# Altium integrated library TI Data Converters Analog to Digital Converter.IntLib: 2197 symbols (part 40 of 168)
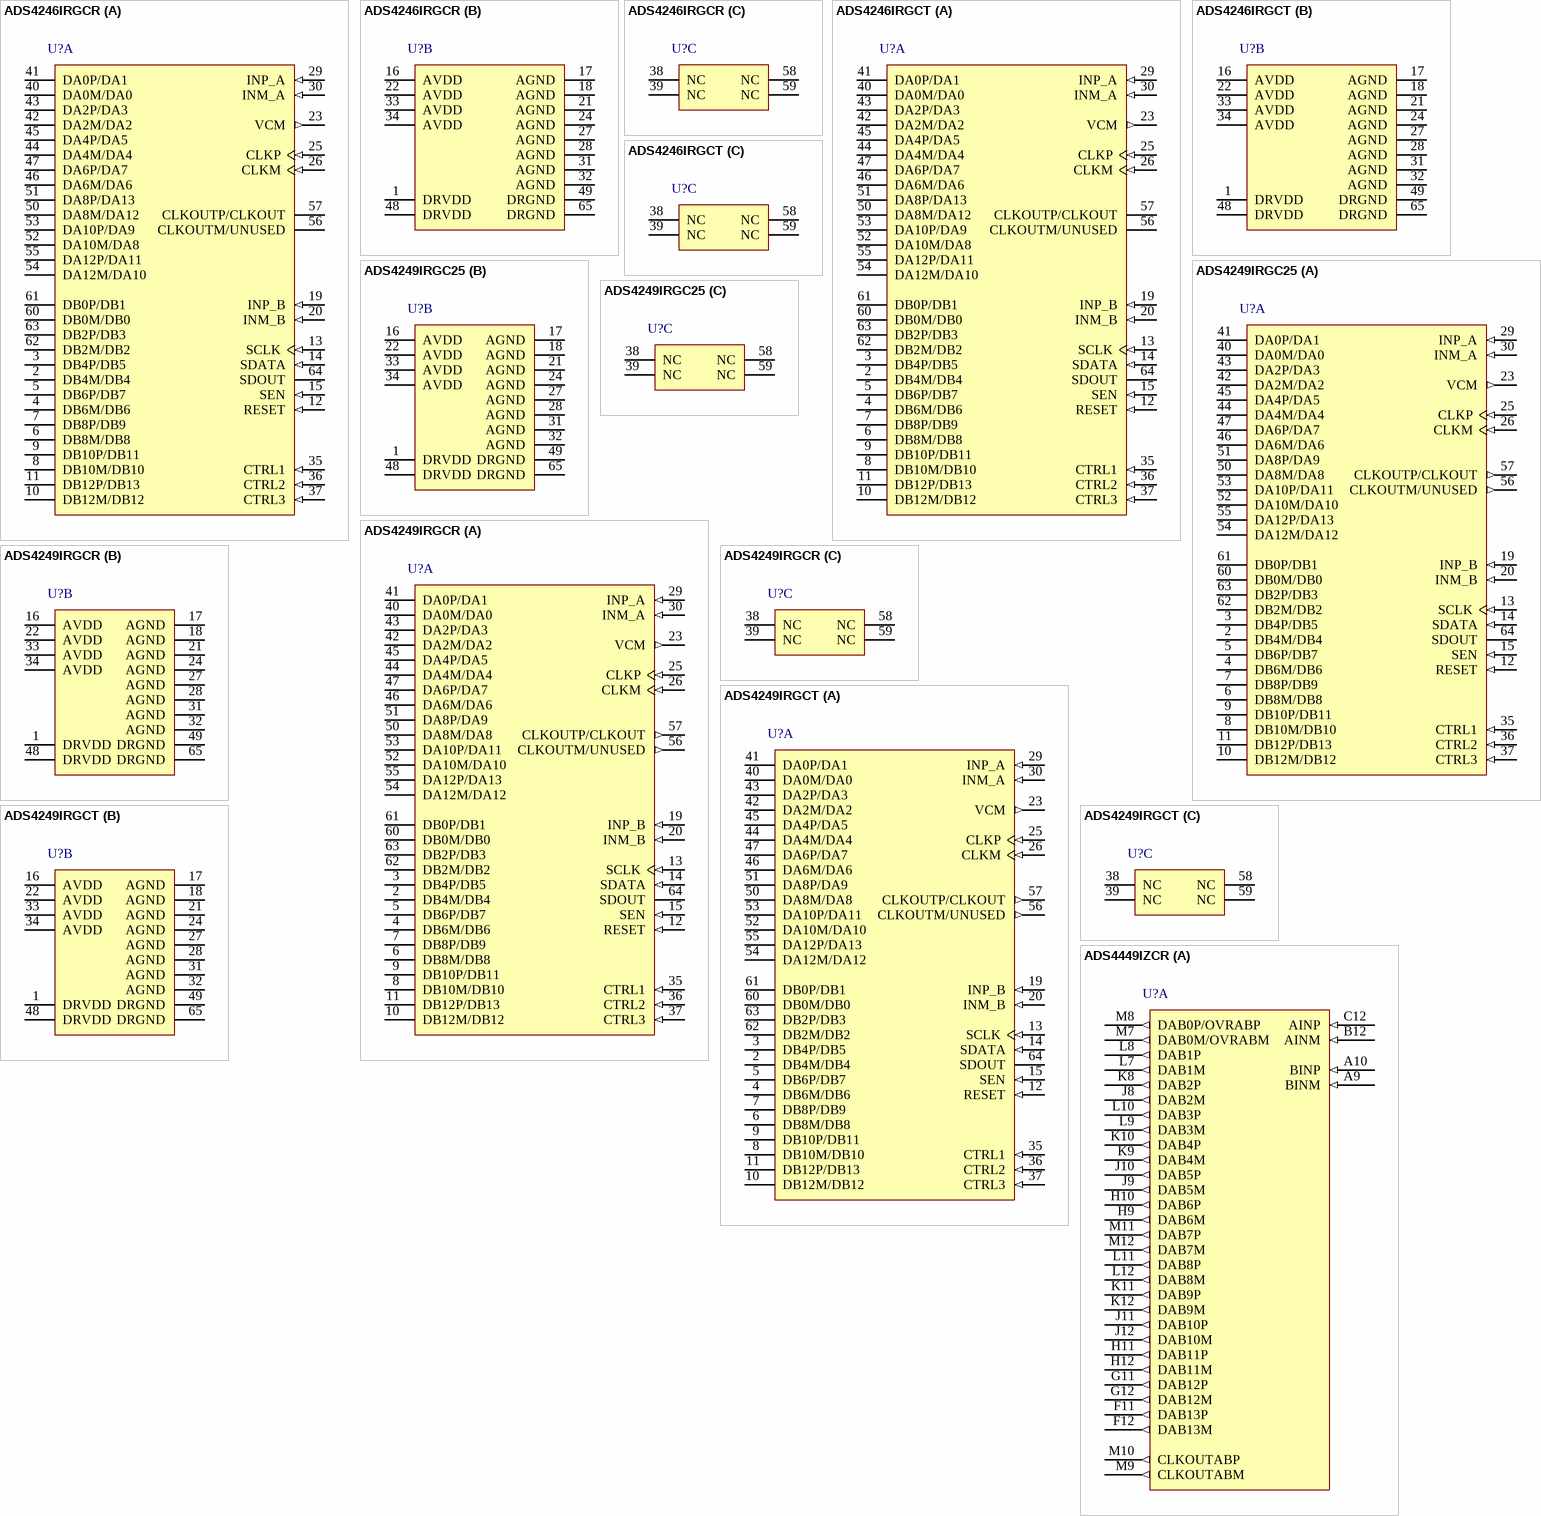
[diagram p165: symbols ADS4246IRGCR to ADS4449IZCR]

## ADS4249IRGCT
designator U?
14-Bit 250 MSPS Dual Low Power ADC, -40 to 85 degC, 64-pin QFN (RGC64), Green (RoHS & no Sb/Br); Manufacturer: Texas Instruments; PartNumber: ADS4249IRGCT; # Input Channels: 2; Analog Voltage AV/DD(Max)(V): 1.9; Analog Voltage AV/DD(Min)(V): 1.7; Architecture: Pipeline; ENOB(Bits): 11.45; INL(Max)(+/-LSB): 4.5; Interface: Parallel CMOS,Parallel LVDS; Resolution(Bits): 14; Sample Rate (max)(SPS): 250M; SFDR(dB): 80; SINAD(dB): 72; SNR(dB): 72.8; SubFamily: High Speed ADC (>10MSPS); DatasheetVersion: SBAS534C; PackageVersion: 4204106/F, 11/2011; PackageReference: RGC64-7400X7400TP; PackageDescription: 64-Pin Plastic Quad Flatpack No-Lead, Body 9 x 9 mm, Pitch 0.5 mm; Supplier 1: Digi-Key; Supplier Part Number 1: ADS8380IBRHPTG4-ND; Supplier 2: Mouser; Supplier Part Number 2: 595-ADS8380IBRHPTG4; Digital Supply(Max)(V): 1.9; Digital Supply(Min)(V): 1.7; Eco-Plan: Green (RoHS & no Sb/Br); Mounting Technology: Surface Mount; ComponentLink1Description: Manufacturer URL; ComponentLink1URL: http://www.ti.com/; ComponentLink2Description: Datasheet; ComponentLink2URL: http://www.ti.com/general/docs/lit/getliterature.tsp?genericPartNumber=ADS4249&fileType=pdf; ComponentLink3Description: Package Specification; ComponentLink3URL: http://www.ti.com/litv/pdf/mpqf125e
footprint TI-RGC64-7400X7400TP_V (QFN, 64-Leads, Body 9x9mm, Pitch 0.5mm, Thermal Pad 7.4x7.4mm, TI Recommended)
part A pins: 2 DB4M/DB4 (hiz), 3 DB4P/DB5 (hiz), 4 DB6M/DB6 (hiz), 5 DB6P/DB7 (hiz), 6 DB8M/DB8 (hiz), 7 DB8P/DB9 (hiz), 8 DB10M/DB10 (hiz), 9 DB10P/DB11 (hiz), 10 DB12M/DB12 (hiz), 11 DB12P/DB13 (hiz), 12 RESET (in) "Serial interface RESET input. When using the serial interface mode, the internal registers must be initialized through a hardware RESET by applying a high pulse on this pin or by using the software reset option; refer to the (See Datasheet)", 13 SCLK (in) "This pin functions as a serial interface clock input when RESET is low. It controls the low-speed mode selection when RESET is tied high; see Table 6 for detailed information. This pin has an internal 150-kohm pull-down (See Datasheet)", 14 SDATA (in) "Serial interface data input; this pin has an internal 150-kohm pull-down resistor.", 15 SEN (in) "This pin functions as a serial interface enable input when RESET is low. It controls the output interface and data format selection when RESET is tied high; see Table 7 for detailed information. This pin has an internal (See Datasheet)", 19 INP_B (in) "Differential analog positive input, channel B", 20 INM_B (in) "Differential analog negative input, channel B", 23 VCM (out) "This pin outputs the common-mode voltage (0.95 V) that can be used externally to bias the analog input pins", 25 CLKP (in) "Differential clock positive input", 26 CLKM (in) "Differential clock negative input", 29 INP_A (in) "Differential analog positive input, channel A", 30 INM_A (in) "Differential analog negative input, channel A", 35 CTRL1 (in) "Digital control input pins. Together, they control the various power-down modes.", 36 CTRL2 (in) "Digital control input pins. Together, they control the various power-down modes.", 37 CTRL3 (in) "Digital control input pins. Together, they control the various power-down modes.", 40 DA0M/DA0 (hiz), 41 DA0P/DA1 (hiz), 42 DA2M/DA2 (hiz), 43 DA2P/DA3 (hiz), 44 DA4M/DA4 (hiz), 45 DA4P/DA5 (hiz), 46 DA6M/DA6 (hiz), 47 DA6P/DA7 (hiz), 50 DA8M/DA8 (hiz), 51 DA8P/DA9 (hiz), 52 DA10M/DA10 (hiz), 53 DA10P/DA11 (hiz), 54 DA12M/DA12 (hiz), 55 DA12P/DA13 (hiz), 56 CLKOUTM/UNUSED (out) "Differential clock negative output", 57 CLKOUTP/CLKOUT (out) "Differential clock positive output", 60 DB0M/DB0 (hiz), 61 DB0P/DB1 (hiz), 62 DB2M/DB2 (hiz), 63 DB2P/DB3 (hiz), 64 SDOUT (hiz) "This pin functions as a serial interface register readout when the READOUT bit is enabled. When READOUT = 0, this pin is in high-impedance state."
part B pins: 1 DRVDD (power) "Output buffer supply", 16 AVDD (power) "Analog power supply", 17 AGND (power) "Analog ground", 18 AGND (power) "Analog ground", 21 AGND (power) "Analog ground", 22 AVDD (power) "Analog power supply", 24 AGND (power) "Analog ground", 27 AGND (power) "Analog ground", 28 AGND (power) "Analog ground", 31 AGND (power) "Analog ground", 32 AGND (power) "Analog ground", 33 AVDD (power) "Analog power supply", 34 AVDD (power) "Analog power supply", 48 DRVDD (power) "Output buffer supply", 49 DRGND (power) "Output buffer ground", 65 DRGND (power) "Output buffer ground"
part C pins: 38 NC "Do not connect, must be floated", 39 NC "Do not connect, must be floated", 58 NC "Do not connect, must be floated", 59 NC "Do not connect, must be floated"

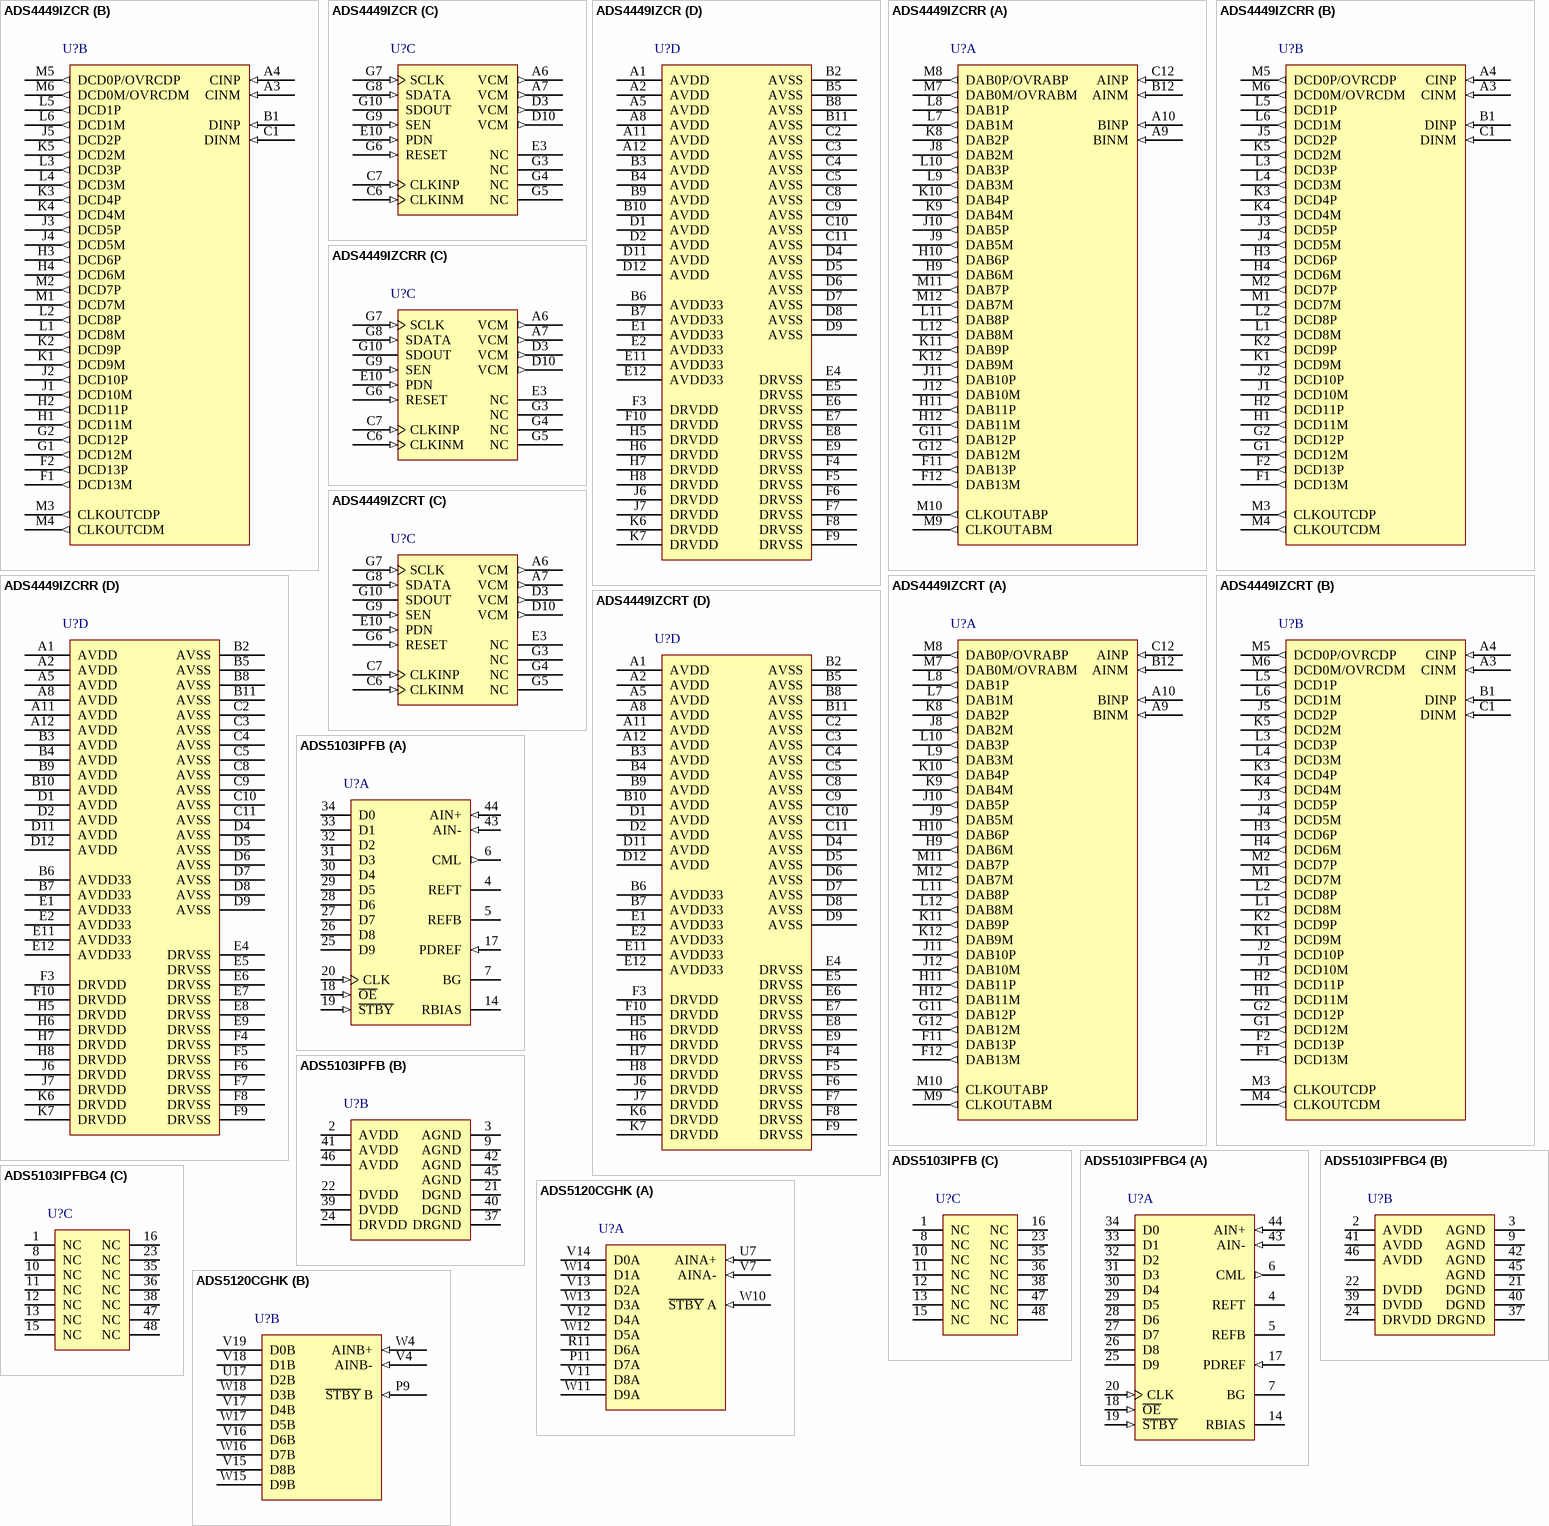
[diagram p35: symbols ADS4449IZCR to ADS5120CGHK]

## ADS4449IZCR
designator U?
Quad-Channel, 14-Bit, 250-MSPS Low-Power ADC, -40 to 85 degC, 144-pin BGA (ZCR), Green (RoHS & no Sb/Br); Manufacturer: Texas Instruments; PartNumber: ADS4449IZCR; # Input Channels: 4; Analog Voltage AV/DD(Max)(V): 3.45; Analog Voltage AV/DD(Min)(V): 3.15; Architecture: Pipeline; Digital Supply(Max)(V): 2; Digital Supply(Min)(V): 1.7; INL(Max)(+/-LSB): 5.25; Interface: DDR LVDS; Resolution(Bits): 14; Sample Rate(max)(SPS): 250M; SFDR(dB): 84; SINAD(dB): 70.9; SNR(dB): 71.1; SubFamily: High Speed ADC (>10MSPS); DatasheetVersion: SBAS603; PackageVersion: 4210272-3/C, 11/2011; PackageReference: ZCR144; PackageDescription: 144-Pin Plastic Ball Grid Array, Body 10 x 10 mm, Pitch 0.8 mm; Supplier 1: Digi-Key; Supplier Part Number 1: 296-17634-2-ND; Supplier 2: Digi-Key; Supplier Part Number 2: 296-17634-1-ND; Supplier 3: Digi-Key; Supplier Part Number 3: 296-17634-6-ND; Supplier 4: Mouser; Supplier Part Number 4: 595-ADS8380IRHPT; Mounting Technology: Surface Mount; Code_JEDEC: MO-219F; ComponentLink1Description: Manufacturer URL; ComponentLink1URL: http://www.ti.com/; ComponentLink2Description: Datasheet; ComponentLink2URL: http://www.ti.com/lit/ds/symlink/ads4449.pdf; ComponentLink3Description: Package Specification; ComponentLink3URL: http://www.ti.com/litv/pdf/mpbga77
footprint TI-ZCR144 (BGA, 144-Balls, Body 10x10mm, Pitch 0.8mm)
part A pins: A9 BINM (in) "Negative differential analog input for channel B", A10 BINP (in) "Positive differential analog input for channel B", B12 AINM (in) "Negative differential analog input for channel A", C12 AINP (in) "Positive differential analog input for channel A", F11 DAB13P (out) "DDR LVDS outputs for channels A and B.", F12 DAB13M (out) "DDR LVDS outputs for channels A and B.", G11 DAB12P (out) "DDR LVDS outputs for channels A and B.", G12 DAB12M (out) "DDR LVDS outputs for channels A and B.", H9 DAB6M (out) "DDR LVDS outputs for channels A and B.", H10 DAB6P (out) "DDR LVDS outputs for channels A and B.", H11 DAB11P (out) "DDR LVDS outputs for channels A and B.", H12 DAB11M (out) "DDR LVDS outputs for channels A and B.", J8 DAB2M (out) "DDR LVDS outputs for channels A and B.", J9 DAB5M (out) "DDR LVDS outputs for channels A and B.", J10 DAB5P (out) "DDR LVDS outputs for channels A and B.", J11 DAB10P (out) "DDR LVDS outputs for channels A and B.", J12 DAB10M (out) "DDR LVDS outputs for channels A and B.", K8 DAB2P (out) "DDR LVDS outputs for channels A and B.", K9 DAB4M (out) "DDR LVDS outputs for channels A and B.", K10 DAB4P (out) "DDR LVDS outputs for channels A and B.", K11 DAB9P (out) "DDR LVDS outputs for channels A and B.", K12 DAB9M (out) "DDR LVDS outputs for channels A and B.", L7 DAB1M (out) "DDR LVDS outputs for channels A and B.", L8 DAB1P (out) "DDR LVDS outputs for channels A and B.", L9 DAB3M (out) "DDR LVDS outputs for channels A and B.", L10 DAB3P (out) "DDR LVDS outputs for channels A and B.", L11 DAB8P (out) "DDR LVDS outputs for channels A and B.", L12 DAB8M (out) "DDR LVDS outputs for channels A and B.", M7 DAB0M/OVRABM (out) "DDR LVDS outputs for channels A and B.", M8 DAB0P/OVRABP (out) "DDR LVDS outputs for channels A and B.", M9 CLKOUTABM (out) "Negative differential LVDS clock output for channel A and B", M10 CLKOUTABP (out) "Positive differential LVDS clock output for channel A and B", M11 DAB7P (out) "DDR LVDS outputs for channels A and B.", M12 DAB7M (out) "DDR LVDS outputs for channels A and B."
part B pins: A3 CINM (in) "Negative differential analog input for channel C", A4 CINP (in) "Positive differential analog input for channel C", B1 DINP (in) "Positive differential analog input for channel D", C1 DINM (in) "Negative differential analog input for channel D", F1 DCD13M (out) "DDR LVDS outputs for channels C and D.", F2 DCD13P (out) "DDR LVDS outputs for channels C and D.", G1 DCD12M (out) "DDR LVDS outputs for channels C and D.", G2 DCD12P (out) "DDR LVDS outputs for channels C and D.", H1 DCD11M (out) "DDR LVDS outputs for channels C and D.", H2 DCD11P (out) "DDR LVDS outputs for channels C and D.", H3 DCD6P (out) "DDR LVDS outputs for channels C and D.", H4 DCD6M (out) "DDR LVDS outputs for channels C and D.", J1 DCD10M (out) "DDR LVDS outputs for channels C and D.", J2 DCD10P (out) "DDR LVDS outputs for channels C and D.", J3 DCD5P (out) "DDR LVDS outputs for channels C and D.", J4 DCD5M (out) "DDR LVDS outputs for channels C and D.", J5 DCD2P (out) "DDR LVDS outputs for channels C and D.", K1 DCD9M (out) "DDR LVDS outputs for channels C and D.", K2 DCD9P (out) "DDR LVDS outputs for channels C and D.", K3 DCD4P (out) "DDR LVDS outputs for channels C and D.", K4 DCD4M (out) "DDR LVDS outputs for channels C and D.", K5 DCD2M (out) "DDR LVDS outputs for channels C and D.", L1 DCD8M (out) "DDR LVDS outputs for channels C and D.", L2 DCD8P (out) "DDR LVDS outputs for channels C and D.", L3 DCD3P (out) "DDR LVDS outputs for channels C and D.", L4 DCD3M (out) "DDR LVDS outputs for channels C and D.", L5 DCD1P (out) "DDR LVDS outputs for channels C and D.", L6 DCD1M (out) "DDR LVDS outputs for channels C and D.", M1 DCD7M (out) "DDR LVDS outputs for channels C and D.", M2 DCD7P (out) "DDR LVDS outputs for channels C and D.", M3 CLKOUTCDP (out) "Positive differential LVDS clock output for channels C and D", M4 CLKOUTCDM (out) "Negative differential LVDS clock output for channels C and D", M5 DCD0P/OVRCDP (out) "DDR LVDS outputs for channels C and D.", M6 DCD0M/OVRCDM (out) "DDR LVDS outputs for channels C and D."
part C pins: A6 VCM (out) "Common-mode voltage for analog inputs. All VCM pins are internally connected together.", A7 VCM (out) "Common-mode voltage for analog inputs. All VCM pins are internally connected together.", C6 CLKINM (in) "Negative differential clock input", C7 CLKINP (in) "Positive differential clock input", D3 VCM (out) "Common-mode voltage for analog inputs. All VCM pins are internally connected together.", D10 VCM (out) "Common-mode voltage for analog inputs. All VCM pins are internally connected together.", E3 NC "Do not connect", E10 PDN (in) "Power-down control; active high. Logic high is power down.", G3 NC "Do not connect", G4 NC "Do not connect", G5 NC "Do not connect", G6 RESET (in) "Hardware reset; active high", G7 SCLK (in) "Serial interface clock input", G8 SDATA (in) "Serial interface data input", G9 SEN (in) "Serial interface enable", G10 SDOUT (hiz) "Serial interface data output"
part D pins: A1 AVDD (power) "Analog 1.9-V power supply", A2 AVDD (power) "Analog 1.9-V power supply", A5 AVDD (power) "Analog 1.9-V power supply", A8 AVDD (power) "Analog 1.9-V power supply", A11 AVDD (power) "Analog 1.9-V power supply", A12 AVDD (power) "Analog 1.9-V power supply", B2 AVSS (power) "Analog ground", B3 AVDD (power) "Analog 1.9-V power supply", B4 AVDD (power) "Analog 1.9-V power supply", B5 AVSS (power) "Analog ground", B6 AVDD33 (power) "Analog 3.3-V power supply", B7 AVDD33 (power) "Analog 3.3-V power supply", B8 AVSS (power) "Analog ground", B9 AVDD (power) "Analog 1.9-V power supply", B10 AVDD (power) "Analog 1.9-V power supply", B11 AVSS (power) "Analog ground", C2 AVSS (power) "Analog ground", C3 AVSS (power) "Analog ground", C4 AVSS (power) "Analog ground", C5 AVSS (power) "Analog ground", C8 AVSS (power) "Analog ground", C9 AVSS (power) "Analog ground", C10 AVSS (power) "Analog ground", C11 AVSS (power) "Analog ground", D1 AVDD (power) "Analog 1.9-V power supply", D2 AVDD (power) "Analog 1.9-V power supply", D4 AVSS (power) "Analog ground", D5 AVSS (power) "Analog ground", D6 AVSS (power) "Analog ground", D7 AVSS (power) "Analog ground", D8 AVSS (power) "Analog ground", D9 AVSS (power) "Analog ground", D11 AVDD (power) "Analog 1.9-V power supply", D12 AVDD (power) "Analog 1.9-V power supply", E1 AVDD33 (power) "Analog 3.3-V power supply", E2 AVDD33 (power) "Analog 3.3-V power supply", E4 DRVSS (power) "Digital ground", E5 DRVSS (power) "Digital ground", E6 DRVSS (power) "Digital ground", E7 DRVSS (power) "Digital ground", E8 DRVSS (power) "Digital ground", E9 DRVSS (power) "Digital ground", E11 AVDD33 (power) "Analog 3.3-V power supply", E12 AVDD33 (power) "Analog 3.3-V power supply", F3 DRVDD (power) "Digital 1.8-V power supply", F4 DRVSS (power) "Digital ground", F5 DRVSS (power) "Digital ground", F6 DRVSS (power) "Digital ground", F7 DRVSS (power) "Digital ground", F8 DRVSS (power) "Digital ground", F9 DRVSS (power) "Digital ground", F10 DRVDD (power) "Digital 1.8-V power supply", H5 DRVDD (power) "Digital 1.8-V power supply", H6 DRVDD (power) "Digital 1.8-V power supply", H7 DRVDD (power) "Digital 1.8-V power supply", H8 DRVDD (power) "Digital 1.8-V power supply", J6 DRVDD (power) "Digital 1.8-V power supply", J7 DRVDD (power) "Digital 1.8-V power supply", K6 DRVDD (power) "Digital 1.8-V power supply", K7 DRVDD (power) "Digital 1.8-V power supply"

## ADS4449IZCRR
designator U?
Quad-Channel, 14-Bit, 250-MSPS Low-Power ADC, -40 to 85 degC, 144-pin BGA (ZCR), Green (RoHS & no Sb/Br); Manufacturer: Texas Instruments; PartNumber: ADS4449IZCRR; # Input Channels: 4; Analog Voltage AV/DD(Max)(V): 3.45; Analog Voltage AV/DD(Min)(V): 3.15; Architecture: Pipeline; Digital Supply(Max)(V): 2; Digital Supply(Min)(V): 1.7; INL(Max)(+/-LSB): 5.25; Interface: DDR LVDS; Resolution(Bits): 14; Sample Rate(max)(SPS): 250M; SFDR(dB): 84; SINAD(dB): 70.9; SNR(dB): 71.1; SubFamily: High Speed ADC (>10MSPS); DatasheetVersion: SBAS603; PackageVersion: 4210272-3/C, 11/2011; PackageReference: ZCR144; PackageDescription: 144-Pin Plastic Ball Grid Array, Body 10 x 10 mm, Pitch 0.8 mm; Supplier 1: Digi-Key; Supplier Part Number 1: ADS8380IRHPTG4-ND; Supplier 2: Mouser; Supplier Part Number 2: 595-ADS8380IRHPTG4; Mounting Technology: Surface Mount; Code_JEDEC: MO-219F; ComponentLink1Description: Manufacturer URL; ComponentLink1URL: http://www.ti.com/; ComponentLink2Description: Datasheet; ComponentLink2URL: http://www.ti.com/lit/ds/symlink/ads4449.pdf; ComponentLink3Description: Package Specification; ComponentLink3URL: http://www.ti.com/litv/pdf/mpbga77
footprint TI-ZCR144 (BGA, 144-Balls, Body 10x10mm, Pitch 0.8mm)
part A pins: A9 BINM (in) "Negative differential analog input for channel B", A10 BINP (in) "Positive differential analog input for channel B", B12 AINM (in) "Negative differential analog input for channel A", C12 AINP (in) "Positive differential analog input for channel A", F11 DAB13P (out) "DDR LVDS outputs for channels A and B.", F12 DAB13M (out) "DDR LVDS outputs for channels A and B.", G11 DAB12P (out) "DDR LVDS outputs for channels A and B.", G12 DAB12M (out) "DDR LVDS outputs for channels A and B.", H9 DAB6M (out) "DDR LVDS outputs for channels A and B.", H10 DAB6P (out) "DDR LVDS outputs for channels A and B.", H11 DAB11P (out) "DDR LVDS outputs for channels A and B.", H12 DAB11M (out) "DDR LVDS outputs for channels A and B.", J8 DAB2M (out) "DDR LVDS outputs for channels A and B.", J9 DAB5M (out) "DDR LVDS outputs for channels A and B.", J10 DAB5P (out) "DDR LVDS outputs for channels A and B.", J11 DAB10P (out) "DDR LVDS outputs for channels A and B.", J12 DAB10M (out) "DDR LVDS outputs for channels A and B.", K8 DAB2P (out) "DDR LVDS outputs for channels A and B.", K9 DAB4M (out) "DDR LVDS outputs for channels A and B.", K10 DAB4P (out) "DDR LVDS outputs for channels A and B.", K11 DAB9P (out) "DDR LVDS outputs for channels A and B.", K12 DAB9M (out) "DDR LVDS outputs for channels A and B.", L7 DAB1M (out) "DDR LVDS outputs for channels A and B.", L8 DAB1P (out) "DDR LVDS outputs for channels A and B.", L9 DAB3M (out) "DDR LVDS outputs for channels A and B.", L10 DAB3P (out) "DDR LVDS outputs for channels A and B.", L11 DAB8P (out) "DDR LVDS outputs for channels A and B.", L12 DAB8M (out) "DDR LVDS outputs for channels A and B.", M7 DAB0M/OVRABM (out) "DDR LVDS outputs for channels A and B.", M8 DAB0P/OVRABP (out) "DDR LVDS outputs for channels A and B.", M9 CLKOUTABM (out) "Negative differential LVDS clock output for channel A and B", M10 CLKOUTABP (out) "Positive differential LVDS clock output for channel A and B", M11 DAB7P (out) "DDR LVDS outputs for channels A and B.", M12 DAB7M (out) "DDR LVDS outputs for channels A and B."
part B pins: A3 CINM (in) "Negative differential analog input for channel C", A4 CINP (in) "Positive differential analog input for channel C", B1 DINP (in) "Positive differential analog input for channel D", C1 DINM (in) "Negative differential analog input for channel D", F1 DCD13M (out) "DDR LVDS outputs for channels C and D.", F2 DCD13P (out) "DDR LVDS outputs for channels C and D.", G1 DCD12M (out) "DDR LVDS outputs for channels C and D.", G2 DCD12P (out) "DDR LVDS outputs for channels C and D.", H1 DCD11M (out) "DDR LVDS outputs for channels C and D.", H2 DCD11P (out) "DDR LVDS outputs for channels C and D.", H3 DCD6P (out) "DDR LVDS outputs for channels C and D.", H4 DCD6M (out) "DDR LVDS outputs for channels C and D.", J1 DCD10M (out) "DDR LVDS outputs for channels C and D.", J2 DCD10P (out) "DDR LVDS outputs for channels C and D.", J3 DCD5P (out) "DDR LVDS outputs for channels C and D.", J4 DCD5M (out) "DDR LVDS outputs for channels C and D.", J5 DCD2P (out) "DDR LVDS outputs for channels C and D.", K1 DCD9M (out) "DDR LVDS outputs for channels C and D.", K2 DCD9P (out) "DDR LVDS outputs for channels C and D.", K3 DCD4P (out) "DDR LVDS outputs for channels C and D.", K4 DCD4M (out) "DDR LVDS outputs for channels C and D.", K5 DCD2M (out) "DDR LVDS outputs for channels C and D.", L1 DCD8M (out) "DDR LVDS outputs for channels C and D.", L2 DCD8P (out) "DDR LVDS outputs for channels C and D.", L3 DCD3P (out) "DDR LVDS outputs for channels C and D.", L4 DCD3M (out) "DDR LVDS outputs for channels C and D.", L5 DCD1P (out) "DDR LVDS outputs for channels C and D.", L6 DCD1M (out) "DDR LVDS outputs for channels C and D.", M1 DCD7M (out) "DDR LVDS outputs for channels C and D.", M2 DCD7P (out) "DDR LVDS outputs for channels C and D.", M3 CLKOUTCDP (out) "Positive differential LVDS clock output for channels C and D", M4 CLKOUTCDM (out) "Negative differential LVDS clock output for channels C and D", M5 DCD0P/OVRCDP (out) "DDR LVDS outputs for channels C and D.", M6 DCD0M/OVRCDM (out) "DDR LVDS outputs for channels C and D."
part C pins: A6 VCM (out) "Common-mode voltage for analog inputs. All VCM pins are internally connected together.", A7 VCM (out) "Common-mode voltage for analog inputs. All VCM pins are internally connected together.", C6 CLKINM (in) "Negative differential clock input", C7 CLKINP (in) "Positive differential clock input", D3 VCM (out) "Common-mode voltage for analog inputs. All VCM pins are internally connected together.", D10 VCM (out) "Common-mode voltage for analog inputs. All VCM pins are internally connected together.", E3 NC "Do not connect", E10 PDN (in) "Power-down control; active high. Logic high is power down.", G3 NC "Do not connect", G4 NC "Do not connect", G5 NC "Do not connect", G6 RESET (in) "Hardware reset; active high", G7 SCLK (in) "Serial interface clock input", G8 SDATA (in) "Serial interface data input", G9 SEN (in) "Serial interface enable", G10 SDOUT (hiz) "Serial interface data output"
part D pins: A1 AVDD (power) "Analog 1.9-V power supply", A2 AVDD (power) "Analog 1.9-V power supply", A5 AVDD (power) "Analog 1.9-V power supply", A8 AVDD (power) "Analog 1.9-V power supply", A11 AVDD (power) "Analog 1.9-V power supply", A12 AVDD (power) "Analog 1.9-V power supply", B2 AVSS (power) "Analog ground", B3 AVDD (power) "Analog 1.9-V power supply", B4 AVDD (power) "Analog 1.9-V power supply", B5 AVSS (power) "Analog ground", B6 AVDD33 (power) "Analog 3.3-V power supply", B7 AVDD33 (power) "Analog 3.3-V power supply", B8 AVSS (power) "Analog ground", B9 AVDD (power) "Analog 1.9-V power supply", B10 AVDD (power) "Analog 1.9-V power supply", B11 AVSS (power) "Analog ground", C2 AVSS (power) "Analog ground", C3 AVSS (power) "Analog ground", C4 AVSS (power) "Analog ground", C5 AVSS (power) "Analog ground", C8 AVSS (power) "Analog ground", C9 AVSS (power) "Analog ground", C10 AVSS (power) "Analog ground", C11 AVSS (power) "Analog ground", D1 AVDD (power) "Analog 1.9-V power supply", D2 AVDD (power) "Analog 1.9-V power supply", D4 AVSS (power) "Analog ground", D5 AVSS (power) "Analog ground", D6 AVSS (power) "Analog ground", D7 AVSS (power) "Analog ground", D8 AVSS (power) "Analog ground", D9 AVSS (power) "Analog ground", D11 AVDD (power) "Analog 1.9-V power supply", D12 AVDD (power) "Analog 1.9-V power supply", E1 AVDD33 (power) "Analog 3.3-V power supply", E2 AVDD33 (power) "Analog 3.3-V power supply", E4 DRVSS (power) "Digital ground", E5 DRVSS (power) "Digital ground", E6 DRVSS (power) "Digital ground", E7 DRVSS (power) "Digital ground", E8 DRVSS (power) "Digital ground", E9 DRVSS (power) "Digital ground", E11 AVDD33 (power) "Analog 3.3-V power supply", E12 AVDD33 (power) "Analog 3.3-V power supply", F3 DRVDD (power) "Digital 1.8-V power supply", F4 DRVSS (power) "Digital ground", F5 DRVSS (power) "Digital ground", F6 DRVSS (power) "Digital ground", F7 DRVSS (power) "Digital ground", F8 DRVSS (power) "Digital ground", F9 DRVSS (power) "Digital ground", F10 DRVDD (power) "Digital 1.8-V power supply", H5 DRVDD (power) "Digital 1.8-V power supply", H6 DRVDD (power) "Digital 1.8-V power supply", H7 DRVDD (power) "Digital 1.8-V power supply", H8 DRVDD (power) "Digital 1.8-V power supply", J6 DRVDD (power) "Digital 1.8-V power supply", J7 DRVDD (power) "Digital 1.8-V power supply", K6 DRVDD (power) "Digital 1.8-V power supply", K7 DRVDD (power) "Digital 1.8-V power supply"

## ADS4449IZCRT
designator U?
Quad-Channel, 14-Bit, 250-MSPS Low-Power ADC, -40 to 85 degC, 144-pin BGA (ZCR); Manufacturer: Texas Instruments; PartNumber: ADS4449IZCRT; # Input Channels: 4; Analog Voltage AV/DD(Max)(V): 3.45; Analog Voltage AV/DD(Min)(V): 3.15; Architecture: Pipeline; Digital Supply(Max)(V): 2; Digital Supply(Min)(V): 1.7; INL(Max)(+/-LSB): 5.25; Interface: DDR LVDS; Resolution(Bits): 14; Sample Rate(max)(SPS): 250M; SFDR(dB): 84; SINAD(dB): 70.9; SNR(dB): 71.1; SubFamily: High Speed ADC (>10MSPS); DatasheetVersion: SBAS603; PackageVersion: 4210272-3/C, 11/2011; PackageReference: ZCR144; PackageDescription: 144-Pin Plastic Ball Grid Array, Body 10 x 10 mm, Pitch 0.8 mm; Supplier 1: Digi-Key; Supplier Part Number 1: ADS8382IBRHPR-ND; Supplier 2: Mouser; Supplier Part Number 2: 595-ADS8382IBRHPR; Mounting Technology: Surface Mount; Code_JEDEC: MO-219F; ComponentLink1Description: Manufacturer URL; ComponentLink1URL: http://www.ti.com/; ComponentLink2Description: Datasheet; ComponentLink2URL: http://www.ti.com/lit/ds/symlink/ads4449.pdf; ComponentLink3Description: Package Specification; ComponentLink3URL: http://www.ti.com/litv/pdf/mpbga77
footprint TI-ZCR144 (BGA, 144-Balls, Body 10x10mm, Pitch 0.8mm)
part A pins: A9 BINM (in) "Negative differential analog input for channel B", A10 BINP (in) "Positive differential analog input for channel B", B12 AINM (in) "Negative differential analog input for channel A", C12 AINP (in) "Positive differential analog input for channel A", F11 DAB13P (out) "DDR LVDS outputs for channels A and B.", F12 DAB13M (out) "DDR LVDS outputs for channels A and B.", G11 DAB12P (out) "DDR LVDS outputs for channels A and B.", G12 DAB12M (out) "DDR LVDS outputs for channels A and B.", H9 DAB6M (out) "DDR LVDS outputs for channels A and B.", H10 DAB6P (out) "DDR LVDS outputs for channels A and B.", H11 DAB11P (out) "DDR LVDS outputs for channels A and B.", H12 DAB11M (out) "DDR LVDS outputs for channels A and B.", J8 DAB2M (out) "DDR LVDS outputs for channels A and B.", J9 DAB5M (out) "DDR LVDS outputs for channels A and B.", J10 DAB5P (out) "DDR LVDS outputs for channels A and B.", J11 DAB10P (out) "DDR LVDS outputs for channels A and B.", J12 DAB10M (out) "DDR LVDS outputs for channels A and B.", K8 DAB2P (out) "DDR LVDS outputs for channels A and B.", K9 DAB4M (out) "DDR LVDS outputs for channels A and B.", K10 DAB4P (out) "DDR LVDS outputs for channels A and B.", K11 DAB9P (out) "DDR LVDS outputs for channels A and B.", K12 DAB9M (out) "DDR LVDS outputs for channels A and B.", L7 DAB1M (out) "DDR LVDS outputs for channels A and B.", L8 DAB1P (out) "DDR LVDS outputs for channels A and B.", L9 DAB3M (out) "DDR LVDS outputs for channels A and B.", L10 DAB3P (out) "DDR LVDS outputs for channels A and B.", L11 DAB8P (out) "DDR LVDS outputs for channels A and B.", L12 DAB8M (out) "DDR LVDS outputs for channels A and B.", M7 DAB0M/OVRABM (out) "DDR LVDS outputs for channels A and B.", M8 DAB0P/OVRABP (out) "DDR LVDS outputs for channels A and B.", M9 CLKOUTABM (out) "Negative differential LVDS clock output for channel A and B", M10 CLKOUTABP (out) "Positive differential LVDS clock output for channel A and B", M11 DAB7P (out) "DDR LVDS outputs for channels A and B.", M12 DAB7M (out) "DDR LVDS outputs for channels A and B."
part B pins: A3 CINM (in) "Negative differential analog input for channel C", A4 CINP (in) "Positive differential analog input for channel C", B1 DINP (in) "Positive differential analog input for channel D", C1 DINM (in) "Negative differential analog input for channel D", F1 DCD13M (out) "DDR LVDS outputs for channels C and D.", F2 DCD13P (out) "DDR LVDS outputs for channels C and D.", G1 DCD12M (out) "DDR LVDS outputs for channels C and D.", G2 DCD12P (out) "DDR LVDS outputs for channels C and D.", H1 DCD11M (out) "DDR LVDS outputs for channels C and D.", H2 DCD11P (out) "DDR LVDS outputs for channels C and D.", H3 DCD6P (out) "DDR LVDS outputs for channels C and D.", H4 DCD6M (out) "DDR LVDS outputs for channels C and D.", J1 DCD10M (out) "DDR LVDS outputs for channels C and D.", J2 DCD10P (out) "DDR LVDS outputs for channels C and D.", J3 DCD5P (out) "DDR LVDS outputs for channels C and D.", J4 DCD5M (out) "DDR LVDS outputs for channels C and D.", J5 DCD2P (out) "DDR LVDS outputs for channels C and D.", K1 DCD9M (out) "DDR LVDS outputs for channels C and D.", K2 DCD9P (out) "DDR LVDS outputs for channels C and D.", K3 DCD4P (out) "DDR LVDS outputs for channels C and D.", K4 DCD4M (out) "DDR LVDS outputs for channels C and D.", K5 DCD2M (out) "DDR LVDS outputs for channels C and D.", L1 DCD8M (out) "DDR LVDS outputs for channels C and D.", L2 DCD8P (out) "DDR LVDS outputs for channels C and D.", L3 DCD3P (out) "DDR LVDS outputs for channels C and D.", L4 DCD3M (out) "DDR LVDS outputs for channels C and D.", L5 DCD1P (out) "DDR LVDS outputs for channels C and D.", L6 DCD1M (out) "DDR LVDS outputs for channels C and D.", M1 DCD7M (out) "DDR LVDS outputs for channels C and D.", M2 DCD7P (out) "DDR LVDS outputs for channels C and D.", M3 CLKOUTCDP (out) "Positive differential LVDS clock output for channels C and D", M4 CLKOUTCDM (out) "Negative differential LVDS clock output for channels C and D", M5 DCD0P/OVRCDP (out) "DDR LVDS outputs for channels C and D.", M6 DCD0M/OVRCDM (out) "DDR LVDS outputs for channels C and D."
part C pins: A6 VCM (out) "Common-mode voltage for analog inputs. All VCM pins are internally connected together.", A7 VCM (out) "Common-mode voltage for analog inputs. All VCM pins are internally connected together.", C6 CLKINM (in) "Negative differential clock input", C7 CLKINP (in) "Positive differential clock input", D3 VCM (out) "Common-mode voltage for analog inputs. All VCM pins are internally connected together.", D10 VCM (out) "Common-mode voltage for analog inputs. All VCM pins are internally connected together.", E3 NC "Do not connect", E10 PDN (in) "Power-down control; active high. Logic high is power down.", G3 NC "Do not connect", G4 NC "Do not connect", G5 NC "Do not connect", G6 RESET (in) "Hardware reset; active high", G7 SCLK (in) "Serial interface clock input", G8 SDATA (in) "Serial interface data input", G9 SEN (in) "Serial interface enable", G10 SDOUT (hiz) "Serial interface data output"
part D pins: A1 AVDD (power) "Analog 1.9-V power supply", A2 AVDD (power) "Analog 1.9-V power supply", A5 AVDD (power) "Analog 1.9-V power supply", A8 AVDD (power) "Analog 1.9-V power supply", A11 AVDD (power) "Analog 1.9-V power supply", A12 AVDD (power) "Analog 1.9-V power supply", B2 AVSS (power) "Analog ground", B3 AVDD (power) "Analog 1.9-V power supply", B4 AVDD (power) "Analog 1.9-V power supply", B5 AVSS (power) "Analog ground", B6 AVDD33 (power) "Analog 3.3-V power supply", B7 AVDD33 (power) "Analog 3.3-V power supply", B8 AVSS (power) "Analog ground", B9 AVDD (power) "Analog 1.9-V power supply", B10 AVDD (power) "Analog 1.9-V power supply", B11 AVSS (power) "Analog ground", C2 AVSS (power) "Analog ground", C3 AVSS (power) "Analog ground", C4 AVSS (power) "Analog ground", C5 AVSS (power) "Analog ground", C8 AVSS (power) "Analog ground", C9 AVSS (power) "Analog ground", C10 AVSS (power) "Analog ground", C11 AVSS (power) "Analog ground", D1 AVDD (power) "Analog 1.9-V power supply", D2 AVDD (power) "Analog 1.9-V power supply", D4 AVSS (power) "Analog ground", D5 AVSS (power) "Analog ground", D6 AVSS (power) "Analog ground", D7 AVSS (power) "Analog ground", D8 AVSS (power) "Analog ground", D9 AVSS (power) "Analog ground", D11 AVDD (power) "Analog 1.9-V power supply", D12 AVDD (power) "Analog 1.9-V power supply", E1 AVDD33 (power) "Analog 3.3-V power supply", E2 AVDD33 (power) "Analog 3.3-V power supply", E4 DRVSS (power) "Digital ground", E5 DRVSS (power) "Digital ground", E6 DRVSS (power) "Digital ground", E7 DRVSS (power) "Digital ground", E8 DRVSS (power) "Digital ground", E9 DRVSS (power) "Digital ground", E11 AVDD33 (power) "Analog 3.3-V power supply", E12 AVDD33 (power) "Analog 3.3-V power supply", F3 DRVDD (power) "Digital 1.8-V power supply", F4 DRVSS (power) "Digital ground", F5 DRVSS (power) "Digital ground", F6 DRVSS (power) "Digital ground", F7 DRVSS (power) "Digital ground", F8 DRVSS (power) "Digital ground", F9 DRVSS (power) "Digital ground", F10 DRVDD (power) "Digital 1.8-V power supply", H5 DRVDD (power) "Digital 1.8-V power supply", H6 DRVDD (power) "Digital 1.8-V power supply", H7 DRVDD (power) "Digital 1.8-V power supply", H8 DRVDD (power) "Digital 1.8-V power supply", J6 DRVDD (power) "Digital 1.8-V power supply", J7 DRVDD (power) "Digital 1.8-V power supply", K6 DRVDD (power) "Digital 1.8-V power supply", K7 DRVDD (power) "Digital 1.8-V power supply"

## ADS5103IPFB
designator U?
10-Bit, 40 MSPS ADC, 1.8 V, Int / Ext Ref, with Power-Down, -40 to 85 degC, 48-pin QFP (PFB48), Green (RoHS & no Sb/Br); Manufacturer: Texas Instruments; PartNumber: ADS5103IPFB; # Input Channels: 1; Analog Voltage AV/DD(Max)(V): 2; Analog Voltage AV/DD(Min)(V): 1.65; Architecture: Pipeline; ENOB(Bits): 9.3; INL(Max)(+/-LSB): 1.5; Interface: Parallel CMOS, Serial SPI Interface; Resolution(Bits): 10; Sample Rate (max)(SPS): 40M; SFDR(dB): 69; SINAD(dB): 58; SNR(dB): 59; SubFamily: High Speed ADC (>10MSPS); DatasheetVersion: SLAS351B; PackageVersion: 4073176/B, 10/1996; PackageReference: PFB48; PackageDescription: 48-Pin Plastic Flat Pack, Body 7 x 7 mm, Pitch 0.5 mm; Supplier 1: Digi-Key; Supplier Part Number 1: ADS8382IBRHPRG4-ND; Supplier 2: Mouser; Supplier Part Number 2: 595-ADS8382IBRHPRG4; Digital Supply(Max)(V): 2; Digital Supply(Min)(V): 1.65; Eco-Plan: Green (RoHS & no Sb/Br); Mounting Technology: Surface Mount; Code_JEDEC: MS-026; ComponentLink1Description: Manufacturer URL; ComponentLink1URL: http://www.ti.com/; ComponentLink2Description: Datasheet; ComponentLink2URL: http://www.ti.com/general/docs/lit/getliterature.tsp?genericPartNumber=ADS5103&fileType=pdf; ComponentLink3Description: Package Specification; ComponentLink3URL: http://www.ti.com/lit/ml/mtqf019a/mtqf019a.pdf
footprint TI-PFB48_N (QFP, 48-Leads, Body 7x7mm, Pitch 0.5mm, IPC Medium Density)
footprint TI-PFB48_L (QFP, 48-Leads, Body 7x7mm, Pitch 0.5mm, IPC High Density)
footprint TI-PFB48_M (QFP, 48-Leads, Body 7x7mm, Pitch 0.5mm, IPC Low Density)
part A pins: 4 REFT "Reference top", 5 REFB "Reference bottom", 6 CML (out) "Common mode level output-nominally 1.0 V", 7 BG "Band-gap decoupling-decouple with 1 uF to GND and 100 kohm to AVDD (refer to Figure 30)", 14 RBIAS "Connect a resistor between this pin and AGND. This resistor value is determined by speed grade selected and is used to set amplifier internal bias currents. (see Table 2)", 17 PDREF (in) "Powerdown reference when using external voltage reference 0 = internal VREF, 1 = external VREF. In external VREF mode, connect pins BG and REFT together.", 18 ~{OE} (in) "1 = 3-state the data outputs , 0 = data bus enable", 19 ~{STBY} (in) "0 = power down mode, 1 = normal operation mode", 20 CLK (in) "Clock Input", 25 D9 (hiz) "Digital Bit 9 (MSB)", 26 D8 (hiz) "Digital Bit 8", 27 D7 (hiz) "Digital Bit 7", 28 D6 (hiz) "Digital Bit 6", 29 D5 (hiz) "Digital Bit 5", 30 D4 (hiz) "Digital Bit 4", 31 D3 (hiz) "Digital Bit 3", 32 D2 (hiz) "Digital Bit 2", 33 D1 (hiz) "Digital Bit 1", 34 D0 (hiz) "Digital Bit 0 (LSB)", 43 AIN- (in) "Negative analog input", 44 AIN+ (in) "Positive analog input"
part B pins: 2 AVDD (power) "Analog supply, 1.8V +/-5%", 3 AGND (power) "Analog ground", 9 AGND (power) "Analog ground", 21 DGND (power) "Digital ground", 22 DVDD (power) "Digital supply-1.8 V nominally", 24 DRVDD (power) "Driver digital supply-1.8 V or 3.3 V nominally", 37 DRGND (power) "Driver digital ground", 39 DVDD (power) "Digital supply-1.8 V nominally", 40 DGND (power) "Digital ground", 41 AVDD (power) "Analog supply, 1.8V +/-5%", 42 AGND (power) "Analog ground", 45 AGND (power) "Analog ground", 46 AVDD (power) "Analog supply, 1.8V +/-5%"
part C pins: 1 NC "No internal connection on this pin", 8 NC "No internal connection on this pin", 10 NC "No internal connection on this pin", 11 NC "No internal connection on this pin", 12 NC "No internal connection on this pin", 13 NC "No internal connection on this pin", 15 NC "No internal connection on this pin", 16 NC "No internal connection on this pin", 23 NC "No internal connection on this pin", 35 NC "No internal connection on this pin", 36 NC "No internal connection on this pin", 38 NC "No internal connection on this pin", 47 NC "No internal connection on this pin", 48 NC "No internal connection on this pin"

## ADS5103IPFBG4
designator U?
10-Bit, 40 MSPS ADC, 1.8 V, Int / Ext Ref, with Power-Down, -40 to 85 degC, 48-pin QFP (PFB48), Green (RoHS & no Sb/Br); Manufacturer: Texas Instruments; PartNumber: ADS5103IPFBG4; # Input Channels: 1; Analog Voltage AV/DD(Max)(V): 2; Analog Voltage AV/DD(Min)(V): 1.65; Architecture: Pipeline; ENOB(Bits): 9.3; INL(Max)(+/-LSB): 1.5; Interface: Parallel CMOS, Serial SPI Interface; Resolution(Bits): 10; Sample Rate (max)(SPS): 40M; SFDR(dB): 69; SINAD(dB): 58; SNR(dB): 59; SubFamily: High Speed ADC (>10MSPS); DatasheetVersion: SLAS351B; PackageVersion: 4073176/B, 10/1996; PackageReference: PFB48; PackageDescription: 48-Pin Plastic Flat Pack, Body 7 x 7 mm, Pitch 0.5 mm; Supplier 1: Digi-Key; Supplier Part Number 1: 296-17519-2-ND; Supplier 2: Digi-Key; Supplier Part Number 2: 296-17519-1-ND; Supplier 3: Digi-Key; Supplier Part Number 3: 296-17519-6-ND; Supplier 4: Mouser; Supplier Part Number 4: 595-ADS8382IBRHPT; Digital Supply(Max)(V): 2; Digital Supply(Min)(V): 1.65; Eco-Plan: Green (RoHS & no Sb/Br); Mounting Technology: Surface Mount; Code_JEDEC: MS-026; ComponentLink1Description: Manufacturer URL; ComponentLink1URL: http://www.ti.com/; ComponentLink2Description: Datasheet; ComponentLink2URL: http://www.ti.com/general/docs/lit/getliterature.tsp?genericPartNumber=ADS5103&fileType=pdf; ComponentLink3Description: Package Specification; ComponentLink3URL: http://www.ti.com/lit/ml/mtqf019a/mtqf019a.pdf
footprint TI-PFB48_N (QFP, 48-Leads, Body 7x7mm, Pitch 0.5mm, IPC Medium Density)
footprint TI-PFB48_L (QFP, 48-Leads, Body 7x7mm, Pitch 0.5mm, IPC High Density)
footprint TI-PFB48_M (QFP, 48-Leads, Body 7x7mm, Pitch 0.5mm, IPC Low Density)
part A pins: 4 REFT "Reference top", 5 REFB "Reference bottom", 6 CML (out) "Common mode level output-nominally 1.0 V", 7 BG "Band-gap decoupling-decouple with 1 uF to GND and 100 kohm to AVDD (refer to Figure 30)", 14 RBIAS "Connect a resistor between this pin and AGND. This resistor value is determined by speed grade selected and is used to set amplifier internal bias currents. (see Table 2)", 17 PDREF (in) "Powerdown reference when using external voltage reference 0 = internal VREF, 1 = external VREF. In external VREF mode, connect pins BG and REFT together.", 18 ~{OE} (in) "1 = 3-state the data outputs , 0 = data bus enable", 19 ~{STBY} (in) "0 = power down mode, 1 = normal operation mode", 20 CLK (in) "Clock Input", 25 D9 (hiz) "Digital Bit 9 (MSB)", 26 D8 (hiz) "Digital Bit 8", 27 D7 (hiz) "Digital Bit 7", 28 D6 (hiz) "Digital Bit 6", 29 D5 (hiz) "Digital Bit 5", 30 D4 (hiz) "Digital Bit 4", 31 D3 (hiz) "Digital Bit 3", 32 D2 (hiz) "Digital Bit 2", 33 D1 (hiz) "Digital Bit 1", 34 D0 (hiz) "Digital Bit 0 (LSB)", 43 AIN- (in) "Negative analog input", 44 AIN+ (in) "Positive analog input"
part B pins: 2 AVDD (power) "Analog supply, 1.8V +/-5%", 3 AGND (power) "Analog ground", 9 AGND (power) "Analog ground", 21 DGND (power) "Digital ground", 22 DVDD (power) "Digital supply-1.8 V nominally", 24 DRVDD (power) "Driver digital supply-1.8 V or 3.3 V nominally", 37 DRGND (power) "Driver digital ground", 39 DVDD (power) "Digital supply-1.8 V nominally", 40 DGND (power) "Digital ground", 41 AVDD (power) "Analog supply, 1.8V +/-5%", 42 AGND (power) "Analog ground", 45 AGND (power) "Analog ground", 46 AVDD (power) "Analog supply, 1.8V +/-5%"
part C pins: 1 NC "No internal connection on this pin", 8 NC "No internal connection on this pin", 10 NC "No internal connection on this pin", 11 NC "No internal connection on this pin", 12 NC "No internal connection on this pin", 13 NC "No internal connection on this pin", 15 NC "No internal connection on this pin", 16 NC "No internal connection on this pin", 23 NC "No internal connection on this pin", 35 NC "No internal connection on this pin", 36 NC "No internal connection on this pin", 38 NC "No internal connection on this pin", 47 NC "No internal connection on this pin", 48 NC "No internal connection on this pin"

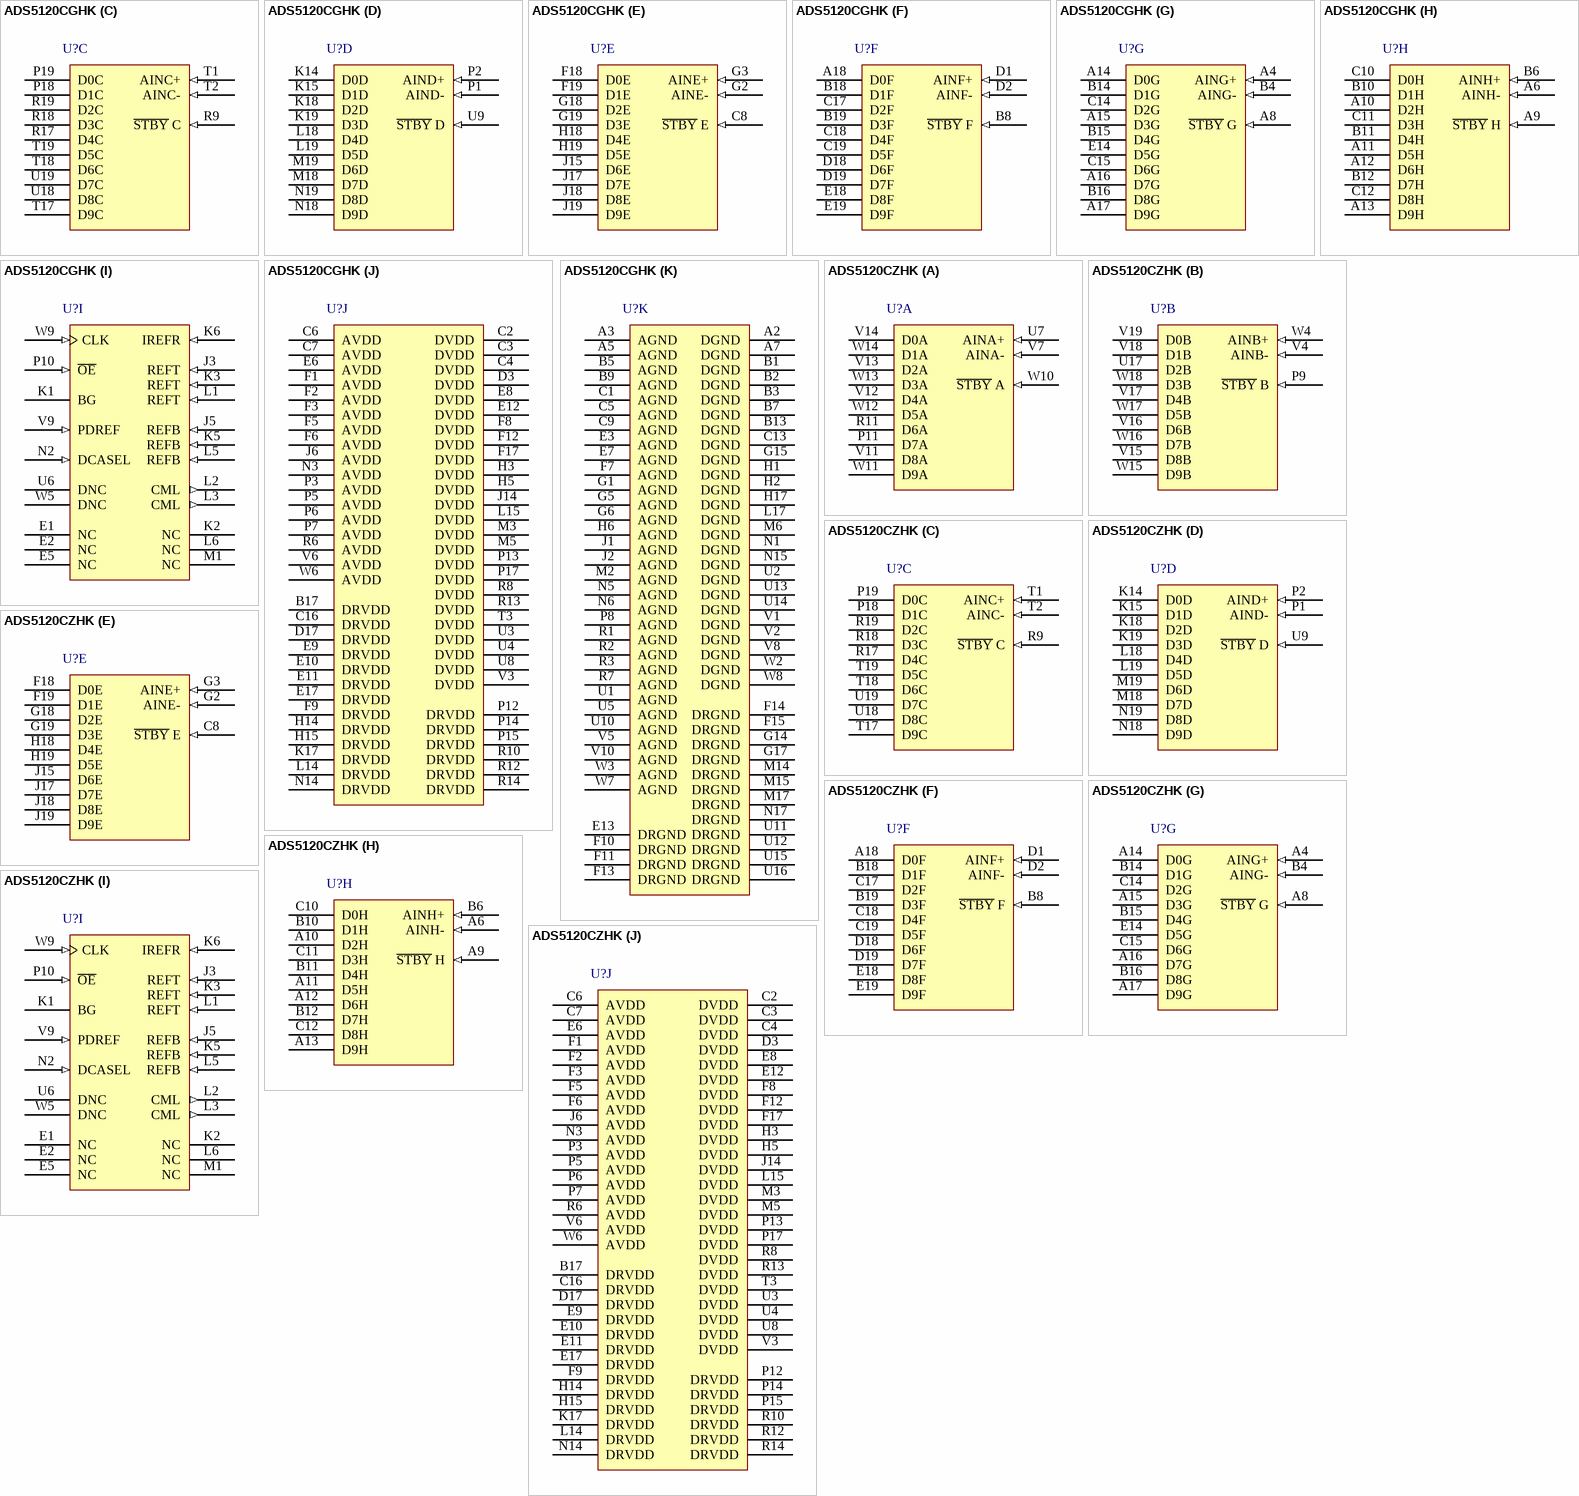
[diagram p36: symbols ADS5120CGHK to ADS5120CZHK]